# Altium footprint library M.2 M-KEY_GF.PcbLib: 1 footprints
Each footprint in its own frame and in the unit in brackets; x right, y up, seen from the top. Pads: shape width x height; smd on the part's side, far side on the other; paste and mask are expansions set on the pad; w line width, h text height; cw(c..) or ccw(c..) is an arc to the next point about the centre after c.
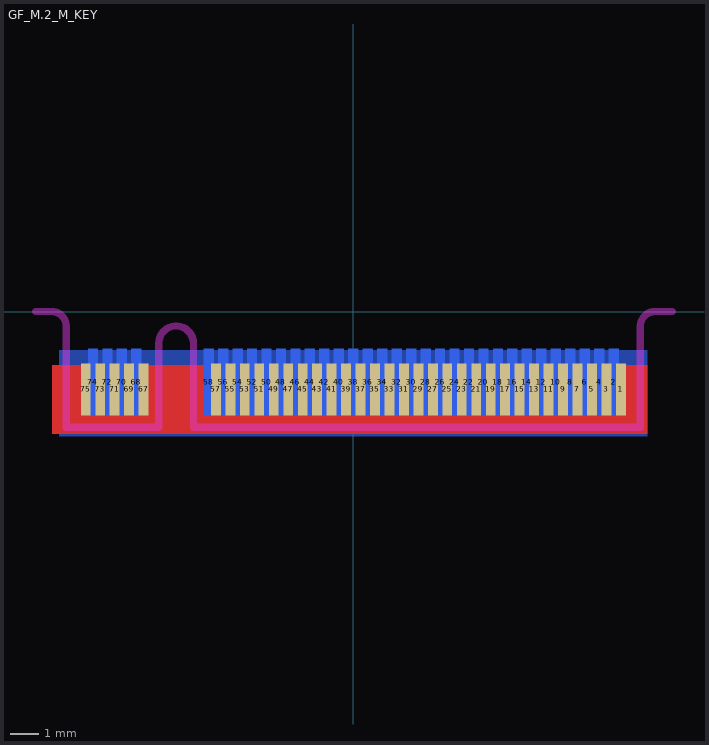
[diagram p0: the footprint, top view; thin cyan lines are the x and y axes]

## GF_M.2_M_KEY [mm]
pads (67):
  rect 0.34x1.8 smd: 1(9.25,-2.694) 3(8.75,-2.694) 5(8.25,-2.694) 7(7.75,-2.694) 9(7.25,-2.694) 11(6.75,-2.694) 13(6.25,-2.694) 15(5.75,-2.694) 17(5.25,-2.694) 19(4.75,-2.694) 21(4.25,-2.694) 23(3.75,-2.694) 25(3.25,-2.694) 27(2.75,-2.694) 29(2.25,-2.694) 31(1.75,-2.694) 33(1.25,-2.694) 35(0.75,-2.694) 37(0.25,-2.694) 39(-0.25,-2.694) 41(-0.75,-2.694) 43(-1.25,-2.694) 45(-1.75,-2.694) 47(-2.25,-2.694) 49(-2.75,-2.694) 51(-3.25,-2.694) 53(-3.75,-2.694) 55(-4.25,-2.694) 57(-4.75,-2.694) 67(-7.25,-2.694) 69(-7.75,-2.694) 71(-8.25,-2.694) 73(-8.75,-2.694) 75(-9.25,-2.694)
  rect 0.34x2.3 smd far side: 2(9,-2.44) 4(8.5,-2.44) 6(8,-2.44) 8(7.5,-2.44) 10(7,-2.44) 12(6.5,-2.44) 14(6,-2.44) 16(5.5,-2.44) 18(5,-2.44) 20(4.5,-2.44) 22(4,-2.44) 24(3.5,-2.44) 26(3,-2.44) 28(2.5,-2.44) 30(2,-2.44) 32(1.5,-2.44) 34(1,-2.44) 36(0.5,-2.44) 38(0,-2.44) 40(-0.5,-2.44) 42(-1,-2.44) 44(-1.5,-2.44) 46(-2,-2.44) 48(-2.5,-2.44) 50(-3,-2.44) 52(-3.5,-2.44) 54(-4,-2.44) 56(-4.5,-2.44) 58(-5,-2.44) 68(-7.5,-2.44) 70(-8,-2.44) 72(-8.5,-2.44) 74(-9,-2.44)
Top Layer:
  pour cut-out: -10.414,-4.216 10.16,-4.216 10.16,-1.854 -10.414,-1.854
Bottom Layer:
  pour cut-out: -10.16,-4.318 10.16,-4.318 10.16,-1.346 -10.16,-1.346
Top Solder:
  region: -10.414,-4.216 10.16,-4.216 10.16,-1.854 -10.414,-1.854
Bottom Solder:
  region: -10.16,-4.318 10.16,-4.318 10.16,-1.346 -10.16,-1.346
Keep-Out Layer:
  lines w0.254: -10.976,0 -10.425,0 ; -9.925,-4 -9.925,-0.5 ; -9.924,-4 -6.726,-4 ; -6.725,-4 -6.725,-1.1 ; -5.525,-4 -5.525,-1.1 ; -5.522,-4 9.926,-4 ; 9.925,-4 9.925,-0.5 ; 10.425,0 11.024,0
Keep-Out Layer:
  lines w0.254: -10.425,0 cw(c-10.425,-0.5) -9.925,-0.5 ; -6.725,-1.1 cw(c-6.125,-1.1) -5.525,-1.1 ; 9.925,-0.5 cw(c10.425,-0.5) 10.425,0